# EAGLE library part SEEED-OPL-CONNECTOR_MICRO-USB-SMD-B-WITHOUT-POST-W/P(ST-USB-001G) (library talkie)
320010000
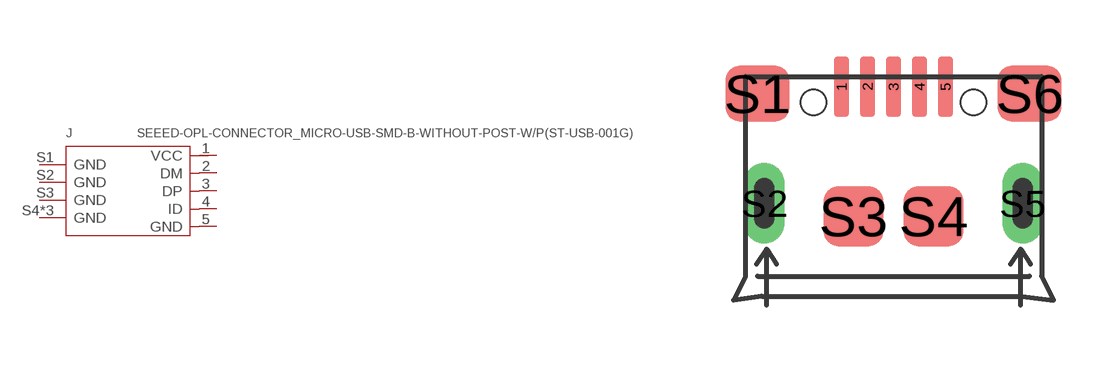
[diagram p1: symbol with the pads of SEEED-OPL-CONNECTOR_MICRO-USB5+4P-SMD-0.65-B; footprint SEEED-OPL-CONNECTOR_MICRO-USB5+4P-SMD-0.65-B]

Designator prefix J

## SEEED-OPL-CONNECTOR_MICRO-USB-SMD-B-WITHOUT-POST-W/P(ST-USB-001G) (MPN: ST-USB-001G)  [SEEED-OPL-CONNECTOR_MICRO-USB5+4P-SMD-0.65-B]
1  VCC
2  DM
3  DP
4  ID
5  GND
S1  GND
S2  GND
S3  GND
S4  GND
S5  GND
S6  GND

## Footprint SEEED-OPL-CONNECTOR_MICRO-USB5+4P-SMD-0.65-B (pad centres in mm)
smd 0.381 x 1.524: 1 -1.3,-0.25; 2 -0.65,-0.25; 3 0,-0.25; 4 0.65,-0.25; 5 1.3,-0.25
smd 1.6 x 1.397: S1 -3.4,-0.427; S6 3.4,-0.427
drill 0.508 pad 1.016 long: S2 -3.226,-3.175; S5 3.226,-3.175
smd 1.5 x 1.5: S3 -1,-3.5; S4 1,-3.5
hole 0.635 at -2,-0.65
hole 0.635 at 2,-0.65